# EAGLE library part MAX5134 (library max5134)
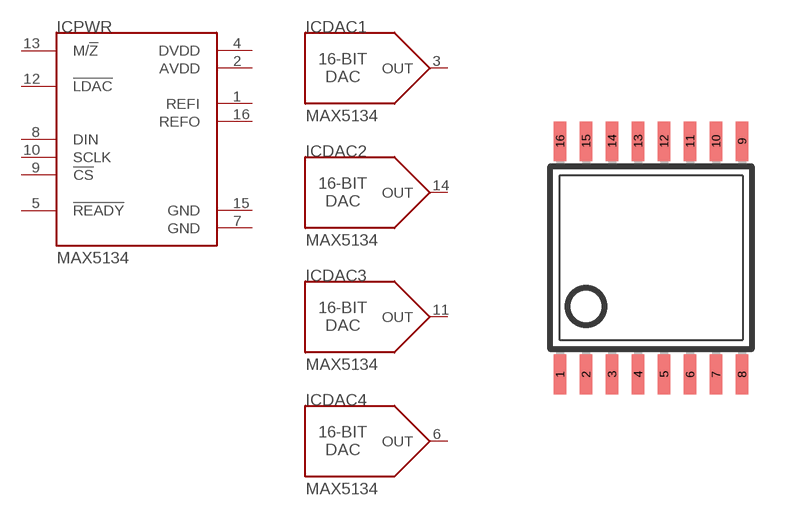
[diagram p0: symbol with the pads of TSSOP16; footprint TSSOP16]

Designator prefix IC; gates DAC1=MAX5134_DAC16 DAC2=MAX5134_DAC16 DAC3=MAX5134_DAC16 DAC4=MAX5134_DAC16 PWR=MAX5134_PWR

## MAX5134  [TSSOP16]
1  PWR:REFI
2  PWR:AVDD
3  DAC1:OUT
4  PWR:DVDD
5  PWR:!READY
6  DAC4:OUT
7  PWR:GND
8  PWR:DIN
9  PWR:!CS
10  PWR:SCLK
11  DAC3:OUT
12  PWR:!LDAC
13  PWR:M/!Z
14  DAC2:OUT
15  PWR:GND
16  PWR:REFO

## Footprint TSSOP16 (pad centres in mm)
Thin Shrink Small Outline Plastic 16 MAX3223-MAX3243.pdf
smd 0.305 x 0.991: 1 -2.275,-2.918; 2 -1.625,-2.918; 3 -0.975,-2.918; 4 -0.325,-2.918; 5 0.325,-2.918; 6 0.975,-2.918; 7 1.625,-2.918; 8 2.275,-2.918; 9 2.275,2.918; 10 1.625,2.918; 11 0.975,2.918; 12 0.325,2.918; 13 -0.325,2.918; 14 -0.975,2.918; 15 -1.625,2.918; 16 -2.275,2.918